# Altium schematic symbol library Sheet_1_2021-12-20.SCHLIB: 1 symbol
Pins are listed as number, name and electrical type; pins without a type are passive.

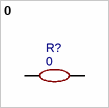
[diagram p0: symbol 0]

## 0
designator R?
BOM_Manufacturer: WTC; BOM_Manufacturer Part: WR08X000PTL; nameAlias: Resistance (Ohms); BOM_Supplier: LCSC; BOM_Supplier Part: C112378; BOM_JLCPCB Part Class: Extended Part; spicePre: R; spiceSymbolName: WR08X000PTL
footprint R0805
pins: 1, 2